# Altium footprint library PCB1.PcbLib: 28 footprints (part 2 of 2)
Each footprint in its own frame and in the unit in brackets; x right, y up, seen from the top. Pads: shape width x height; smd on the part's side, far side on the other; paste and mask are expansions set on the pad; w line width, h text height; cw(c..) or ccw(c..) is an arc to the next point about the centre after c.
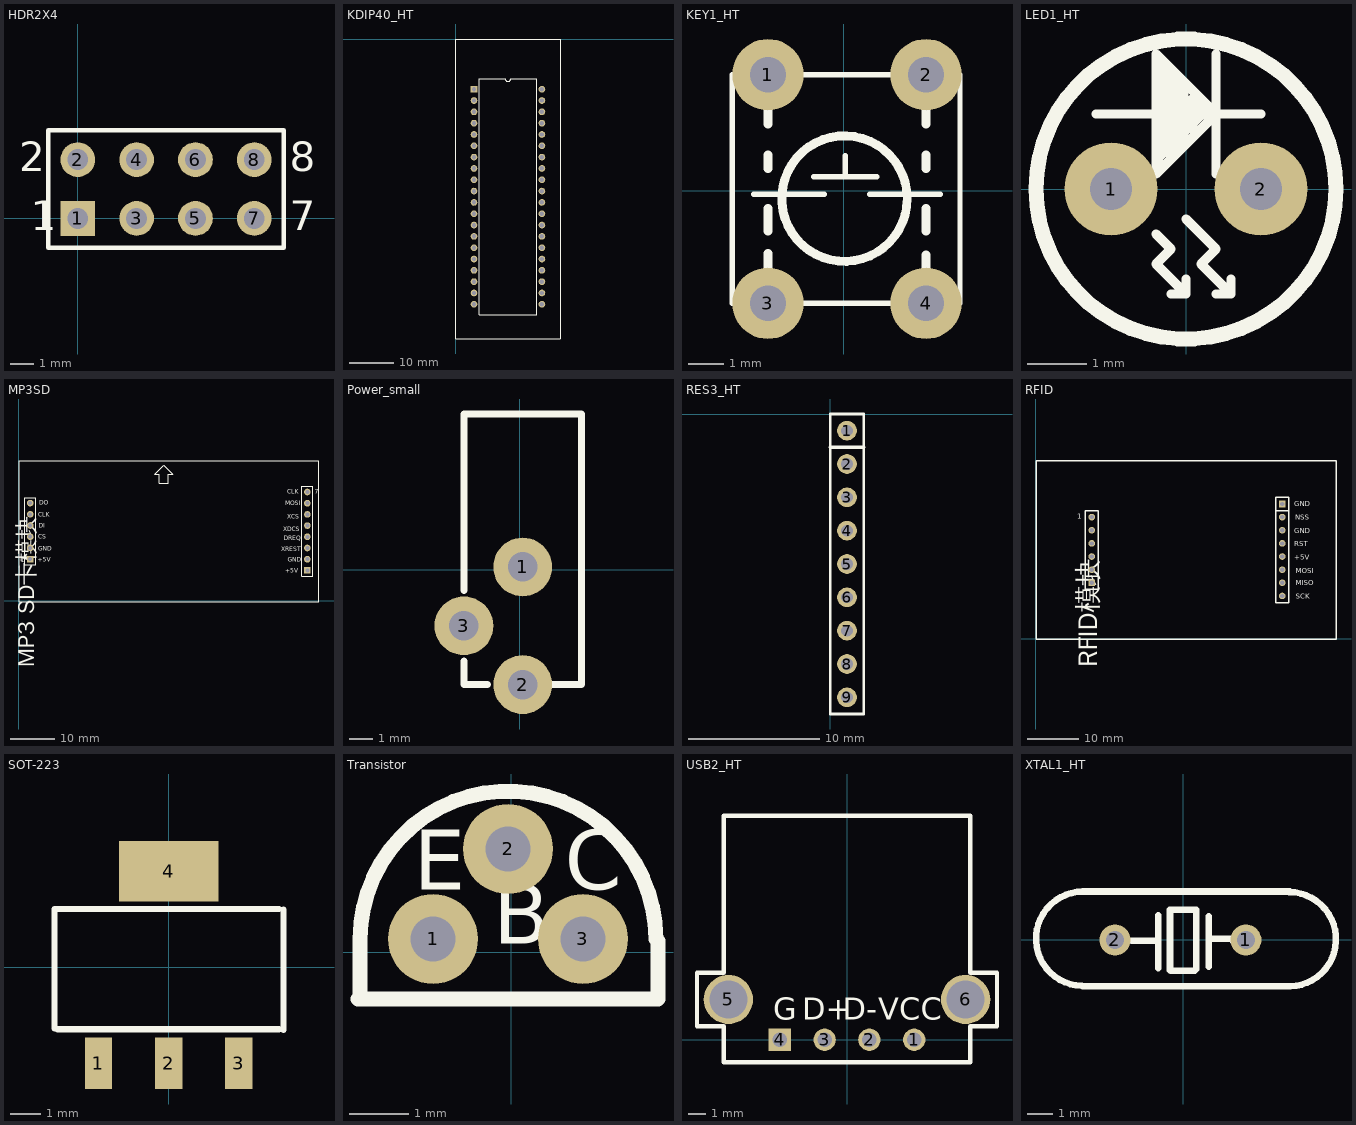
[diagram p1: the footprints below, top view; thin cyan lines are the x and y axes]

## HDR2X4 [mm] "Connector; Header; 4x2 Position"
pads (8):
  rect 1.5x1.5 hole 0.9: 1(0,0)
  round 1.5 hole 0.9: 2(0,2.54) 3(2.54,0) 4(2.54,2.54) 5(5.08,0) 6(5.08,2.54) 7(7.62,0) 8(7.62,2.54)
Top Overlay:
  lines w0.2: -1.27,-1.27 -1.27,3.81 8.89,3.81 8.89,-1.27 -1.27,-1.27
  text "8" at 9.144,2.032 h1.27
  text "7" at 9.144,-0.508 h1.27
  text "1" at -2.032,-0.508 h1.27
  text "2" at -2.54,2.032 h1.27

## KDIP40_HT [mm]
pads (40):
  rect 1.5x1.5 hole 0.991: 1(4.121,-11.264)
  round 1.5 hole 0.991: 2(4.121,-13.804) 3(4.121,-16.344) 4(4.121,-18.884) 5(4.121,-21.424) 6(4.121,-23.964) 7(4.121,-26.504) 8(4.121,-29.044) 9(4.121,-31.584) 10(4.121,-34.124) 11(4.121,-36.664) 12(4.121,-39.204) 13(4.121,-41.744) 14(4.121,-44.284) 15(4.121,-46.824) 16(4.121,-49.364) 17(4.121,-51.904) 18(4.121,-54.444) 19(4.121,-56.984) 20(4.121,-59.524) 21(19.361,-59.524) 22(19.361,-56.984) 23(19.361,-54.444) 24(19.361,-51.904) 25(19.361,-49.364) 26(19.361,-46.824) 27(19.361,-44.284) 28(19.361,-41.744) 29(19.361,-39.204) 30(19.361,-36.664) 31(19.361,-34.124) 32(19.361,-31.584) 33(19.361,-29.044) 34(19.361,-26.504) 35(19.361,-23.964) 36(19.361,-21.424) 37(19.361,-18.884) 38(19.361,-16.344) 39(19.361,-13.804) 40(19.361,-11.264)
Top Overlay:
  lines w0.2: 5.291,-61.894 18.191,-61.894 18.191,-8.894 12.376,-8.894 cw(c11.741,-8.894) 11.106,-8.894 5.291,-8.894 5.291,-61.894
  lines w0.254: 0,-67.31 0,0 23.495,0 23.5,-67.31 0,-67.31

## KEY1_HT [mil]
pads (4):
  round 80 hole 40: 1(-85,130) 2(92,130) 3(-85,-126) 4(92,-126)
Top Overlay:
  circle w10: c0.67,-8.73 r70.27
  lines w6: -100.75,-3.86 -22.01,-3.86 ; -33.82,15.83 37.05,15.83 ; 1.62,15.83 1.62,39.45 ; 29.17,-3.86 107.91,-3.86 ; -125,-126 130,-126 130,130 -125,130 -125,-126
  lines w10: -85,-126 -85,-70 ; -85,-45 -85,-20 ; -85,25 -85,40 ; -85,75 -85,130 ; 92,-126 92,-72 ; 92,-45 92,-20 ; 92,25 92,40 ; 92,75 92,130

## LED1_HT [mil]
pads (2):
  round 62 hole 28: 1(-50,0) 2(50,0)
Top Overlay:
  circle w10: c0,0 r100
  rectangle: -19.89,26.8 -3.09,72
  lines w5: -0.94,70.94 -0.94,29.06 5,35 5,61.77 ; 3.49,53.54 2,52.06 9,52.06 5,56.06 5,49.89 5,43 ; 5,43 -0.94,48.94 -0.94,55.83 5,61.77 ; 5,43 5,61.77 ; 5,43 -14.52,23.48 -14.52,78 -8.76,72.24 -8.76,78.24 -16.2,70.8 -16.2,79.8 -18,78 -18,20 11,49 11,55.77 5,61.77
  lines w6: -60,50 50,50 ; -20,-30 -10,-40 -20,-50 0,-70 ; -20,30 -20,33.07 ; -10,-70 0,-70 ; 0,-60 0,-70 ; 0,-20 20,-40 10,-50 30,-70 ; 20,-70 30,-70 ; 20,10 20,90 ; 30,-60 30,-70 ; -20,10 -20,90 20,50 -20,10

## MP3SD [mm]
pads (14):
  rect 1.5x1.5 hole 0.9: 1(2.564,9.453) 14(65.429,6.889)
  round 1.5 hole 0.9: 2(2.564,11.993) 3(2.564,14.533) 4(2.564,17.073) 5(2.564,19.613) 6(2.564,22.153) 7(65.429,24.669) 8(65.429,22.129) 9(65.429,19.589) 10(65.429,17.049) 11(65.429,14.509) 12(65.429,11.969) 13(65.429,9.429)
Top Layer:
  lines w0.254: 64.929,11.969 65.429,11.969
  lines w0.635: 65.111,9.373 65.167,9.429 65.429,9.429
Top Overlay:
  lines w0.2: 1.294,8.183 3.834,8.183 3.834,23.423 1.294,23.423 1.294,8.183 ; 64.159,5.619 66.699,5.619 66.699,25.939 64.159,25.939 64.159,5.619
  lines w0.254: 0.025,-0.203 0.025,31.801 68.021,31.801 68.021,-0.229 0.051,-0.229 0.025,-0.203 ; 30.868,28.711 31.868,28.711 31.868,26.711 33.868,26.711 33.868,28.711 34.868,28.711 32.868,30.711 30.868,28.711
  text "7" at 67.056,24.232 h1.02
  text "MP3 SD卡模块" at 3.429,-15.113 h3.81
  text "DO" at 4.621,21.73 h1.02
  text "CLK" at 4.393,19.114 h1.02
  text "DI" at 4.496,16.561 h1.02
  text "CS" at 4.394,14.046 h1.02
  text "GND" at 4.394,11.405 h1.02
  text "+5V" at 4.267,8.839 h1.02
  text "1" at 0.456,8.776 h1.02
  text "+5V" at 60.452,6.325 h1.02
  text "GND" at 60.984,8.903 h1.02
  text "XREST" at 59.46,11.291 h1.02
  text "DREQ" at 60.12,13.78 h1.02
  text "XDCS" at 59.995,15.824 h1.02
  text "XCS" at 60.858,18.593 h1.02
  text "MOSI" at 60.427,21.717 h1.02
  text "CLK" at 60.858,24.308 h1.02

## Power_small [mil]
pads (3):
  round 100 hole 50: 1(5,5) 2(5,-195) 3(-95,-95)
Top Overlay:
  lines w12: -95,-155 -95,-195 -55,-195 ; -95,-35 -95,265 105,265 105,-195 55,-195

## RES3_HT [mm]
pads (9):
  round 1.5 hole 0.9: 1(1.27,-1.269) 2(1.27,-3.809) 3(1.27,-6.349) 4(1.27,-8.889) 5(1.27,-11.429) 6(1.27,-13.969) 7(1.27,-16.509) 8(1.27,-19.049) 9(1.27,-21.589)
Top Overlay:
  lines w0.2: 0,-22.859 2.54,-22.859 2.54,0.001 0,0.001 0,-22.859
  lines w0.254: 0,-2.54 2.54,-2.54

## RFID [mil]
pads (14):
  round 50 hole 32: 1(428,927) 2(428,827) 3(428,727) 4(428,627) 5(428,527) 7(1878,327) 8(1878,427) 9(1878,527) 10(1878,627) 11(1878,727) 12(1878,827) 13(1878,927)
  rect 50x50 hole 32: 6(428,427) 14(1878,1027)
Top Overlay:
  lines w10: 378,477 478,477 ; 1828,977 1928,977 ; 3.48,-2.98 3.48,1355.29 2286.94,1355.29 2286.94,-2.98 3.48,-2.98 ; 378,377 378,977 478,977 478,377 378,377 ; 1828,277 1828,1077 1928,1077 1928,277 1828,277
  text "RFID模块" at 470,-215 h150
  text "RST" at 1971,705 h40
  text "SCK" at 1979,304 h40
  text "MISO" at 1980,407 h40
  text "MOSI" at 1981,500 h40
  text "+5V" at 1971,603 h40
  text "GND" at 1970,805 h40
  text "GND" at 1968.94,1008.52 h40
  text "NSS" at 1975,908 h40
  text "1" at 317.94,913.52 h40

## SOT-223 [mm]
pads (4):
  rect 0.9x1.7 smd: 1(-2.311,-3.162) 2(0,-3.162) 3(2.311,-3.162)
  rect 3.28x2 smd: 4(0,3.162)
Top Overlay:
  lines w0.203: -3.759,-2.019 -3.759,1.918 3.632,1.918 ; -3.658,-2.045 3.632,-2.045 ; 3.785,-2.07 3.785,1.892

## Transistor [mil]
pads (3):
  round 60 hole 30: 1(-52,8.95) 2(-2,68.95) 3(48,8.95)
Top Overlay:
  lines w10: -102,-31.05 -100.62,-29.67 -100.62,8.95 cw(c-2,8.95) 96.61,8.95 98,7.56 98,-31.05 -102,-31.05
  text "E" at -65,41.95 h40
  text "B" at -12,5.95 h40
  text "C" at 36,41.95 h40

## USB2_HT [mil]
pads (6):
  round 50 hole 32: 1(150,0) 2(50,0) 3(-50,0)
  rect 50x50 hole 32: 4(-150,0)
  round 110 hole 85: 5(-265,90) 6(265,90)
Top Overlay:
  lines w10: -335,30 -335,150 -275,150 -275,500 275,500 275,150 335,150 335,30 275,30 275,-50 -275,-50 -275,30 -335,30
  text "D-" at -10,45 h50
  text "VCC" at 70,45 h50
  text "D+" at -100,45 h50
  text "G" at -165,45 h50

## XTAL1_HT [mm]
pads (2):
  round 1.2 hole 0.7: 1(2.438,0) 2(-2.642,0)
Top Overlay:
  lines w0.254: -3.938,-1.785 cw(c-3.873,0.047) -3.886,1.88 4.14,1.88 ; -3.886,-1.803 4.166,-1.803 ccw(c4.101,0.028) 4.113,1.861 ; -1.981,-0.025 -1.143,-0.025 ; -0.965,-1.092 -0.965,0.965 ; 0.457,-1.194 -0.483,-1.194 -0.508,-1.168 -0.508,1.168 0.508,1.168 0.508,-1.143 ; 0.991,-1.041 0.991,0.914 ; 1.041,0.051 1.93,0.051 1.956,-0.076